# EAGLE library part SUNORBIT (library SunOrbitController)
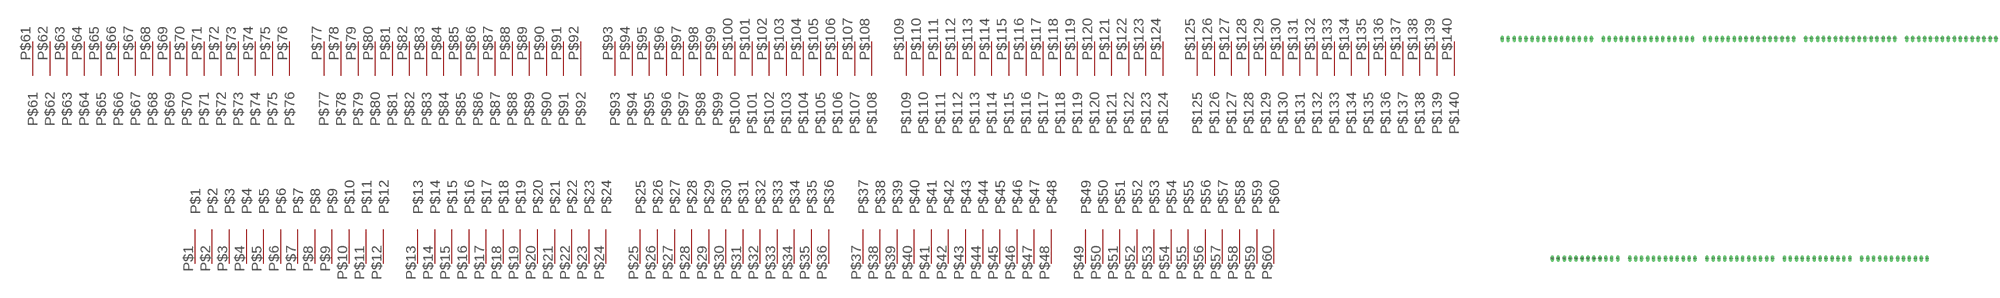
[diagram p0: symbol with the pads of FOOTPRINT; footprint FOOTPRINT]

Designator prefix -

## SUNORBIT  [FOOTPRINT]
P$1  P$1
P$2  P$2
P$3  P$3
P$4  P$4
P$5  P$5
P$6  P$6
P$7  P$7
P$8  P$8
P$9  P$9
P$10  P$10
P$11  P$11
P$12  P$12
P$13  P$13
P$14  P$14
P$15  P$15
P$16  P$16
P$17  P$17
P$18  P$18
P$19  P$19
P$20  P$20
P$21  P$21
P$22  P$22
P$23  P$23
P$24  P$24
P$25  P$25
P$26  P$26
P$27  P$27
P$28  P$28
P$29  P$29
P$30  P$30
P$31  P$31
P$32  P$32
P$33  P$33
P$34  P$34
P$35  P$35
P$36  P$36
P$37  P$37
P$38  P$38
P$39  P$39
P$40  P$40
P$41  P$41
P$42  P$42
P$43  P$43
P$44  P$44
P$45  P$45
P$46  P$46
P$47  P$47
P$48  P$48
P$49  P$49
P$50  P$50
P$51  P$51
P$52  P$52
P$53  P$53
P$54  P$54
P$55  P$55
P$56  P$56
P$57  P$57
P$58  P$58
P$59  P$59
P$60  P$60
P$61  P$61
P$62  P$62
P$63  P$63
P$64  P$64
P$65  P$65
P$66  P$66
P$67  P$67
P$68  P$68
P$69  P$69
P$70  P$70
P$71  P$71
P$72  P$72
P$73  P$73
P$74  P$74
P$75  P$75
P$76  P$76
P$77  P$77
P$78  P$78
P$79  P$79
P$80  P$80
P$81  P$81
P$82  P$82
P$83  P$83
P$84  P$84
P$85  P$85
P$86  P$86
P$87  P$87
P$88  P$88
P$89  P$89
P$90  P$90
P$91  P$91
P$92  P$92
P$93  P$93
P$94  P$94
P$95  P$95
P$96  P$96
P$97  P$97
P$98  P$98
P$99  P$99
P$100  P$100
P$101  P$101
P$102  P$102
P$103  P$103
P$104  P$104
P$105  P$105
P$106  P$106
P$107  P$107
P$108  P$108
P$109  P$109
P$110  P$110
P$111  P$111
P$112  P$112
P$113  P$113
P$114  P$114
P$115  P$115
P$116  P$116
P$117  P$117
P$118  P$118
P$119  P$119
P$120  P$120
P$121  P$121
P$122  P$122
P$123  P$123
P$124  P$124
P$125  P$125
P$126  P$126
P$127  P$127
P$128  P$128
P$129  P$129
P$130  P$130
P$131  P$131
P$132  P$132
P$133  P$133
P$134  P$134
P$135  P$135
P$136  P$136
P$137  P$137
P$138  P$138
P$139  P$139
P$140  P$140

## Footprint FOOTPRINT (pad centres in mm)
drill 1 long: P$1 -80.01,-49; P$2 -77.47,-49; P$3 -74.93,-49; P$4 -72.39,-49; P$5 -69.85,-49; P$6 -67.31,-49; P$7 -64.77,-49; P$8 -62.23,-49; P$9 -59.69,-49; P$10 -57.15,-49; P$11 -54.61,-49; P$12 -52.07,-49; P$13 -46.99,-49; P$14 -44.45,-49; P$15 -41.91,-49; P$16 -39.37,-49; P$17 -36.83,-49; P$18 -34.29,-49; P$19 -31.75,-49; P$20 -29.21,-49; P$21 -26.67,-49; P$22 -24.13,-49; P$23 -21.59,-49; P$24 -19.05,-49; P$25 -13.97,-49; P$26 -11.43,-49; P$27 -8.89,-49; P$28 -6.35,-49; P$29 -3.81,-49; P$30 -1.27,-49; P$31 1.27,-49; P$32 3.81,-49; P$33 6.35,-49; P$34 8.89,-49; P$35 11.43,-49; P$36 13.97,-49; P$37 19.05,-49; P$38 21.59,-49; P$39 24.13,-49; P$40 26.67,-49; P$41 29.21,-49; P$42 31.75,-49; P$43 34.29,-49; P$44 36.83,-49; P$45 39.37,-49; P$46 41.91,-49; P$47 44.45,-49; P$48 46.99,-49; P$49 52.07,-49; P$50 54.61,-49; P$51 57.15,-49; P$52 59.69,-49; P$53 62.23,-49; P$54 64.77,-49; P$55 67.31,-49; P$56 69.85,-49; P$57 72.39,-49; P$58 74.93,-49; P$59 77.47,-49; P$60 80.01,-49; P$61 -101.4,45; P$62 -98.86,45; P$63 -96.32,45; P$64 -93.78,45; P$65 -91.24,45; P$66 -88.7,45; P$67 -86.16,45; P$68 -83.62,45; P$69 -81.08,45; P$70 -78.54,45; P$71 -76,45; P$72 -73.46,45; P$73 -70.92,45; P$74 -68.38,45; P$75 -65.84,45; P$76 -63.3,45; P$77 -58.22,45; P$78 -55.68,45; P$79 -53.14,45; P$80 -50.6,45; P$81 -48.06,45; P$82 -45.52,45; P$83 -42.98,45; P$84 -40.44,45; P$85 -37.9,45; P$86 -35.36,45; P$87 -32.82,45; P$88 -30.28,45; P$89 -27.74,45; P$90 -25.2,45; P$91 -22.66,45; P$92 -20.12,45; P$93 -15.04,45; P$94 -12.5,45; P$95 -9.96,45; P$96 -7.42,45; P$97 -4.88,45; P$98 -2.34,45; P$99 0.2,45; P$100 2.74,45; P$101 5.28,45; P$102 7.82,45; P$103 10.36,45; P$104 12.9,45; P$105 15.44,45; P$106 17.98,45; P$107 20.52,45; P$108 23.06,45; P$109 28.1,45; P$110 30.64,45; P$111 33.18,45; P$112 35.72,45; P$113 38.26,45; P$114 40.8,45; P$115 43.34,45; P$116 45.88,45; P$117 48.42,45; P$118 50.96,45; P$119 53.5,45; P$120 56.04,45; P$121 58.58,45; P$122 61.12,45; P$123 63.66,45; P$124 66.2,45; P$125 71.26,45; P$126 73.8,45; P$127 76.34,45; P$128 78.88,45; P$129 81.42,45; P$130 83.96,45; P$131 86.5,45; P$132 89.04,45; P$133 91.58,45; P$134 94.12,45; P$135 96.66,45; P$136 99.2,45; P$137 101.74,45; P$138 104.28,45; P$139 106.82,45; P$140 109.36,45